# Altium footprint library WREL_AD10.PcbLib: 52 footprints (part 3 of 4)
Each footprint in its own frame and in the unit in brackets; x right, y up, seen from the top. Pads: shape width x height; smd on the part's side, far side on the other; paste and mask are expansions set on the pad; w line width, h text height; cw(c..) or ccw(c..) is an arc to the next point about the centre after c.
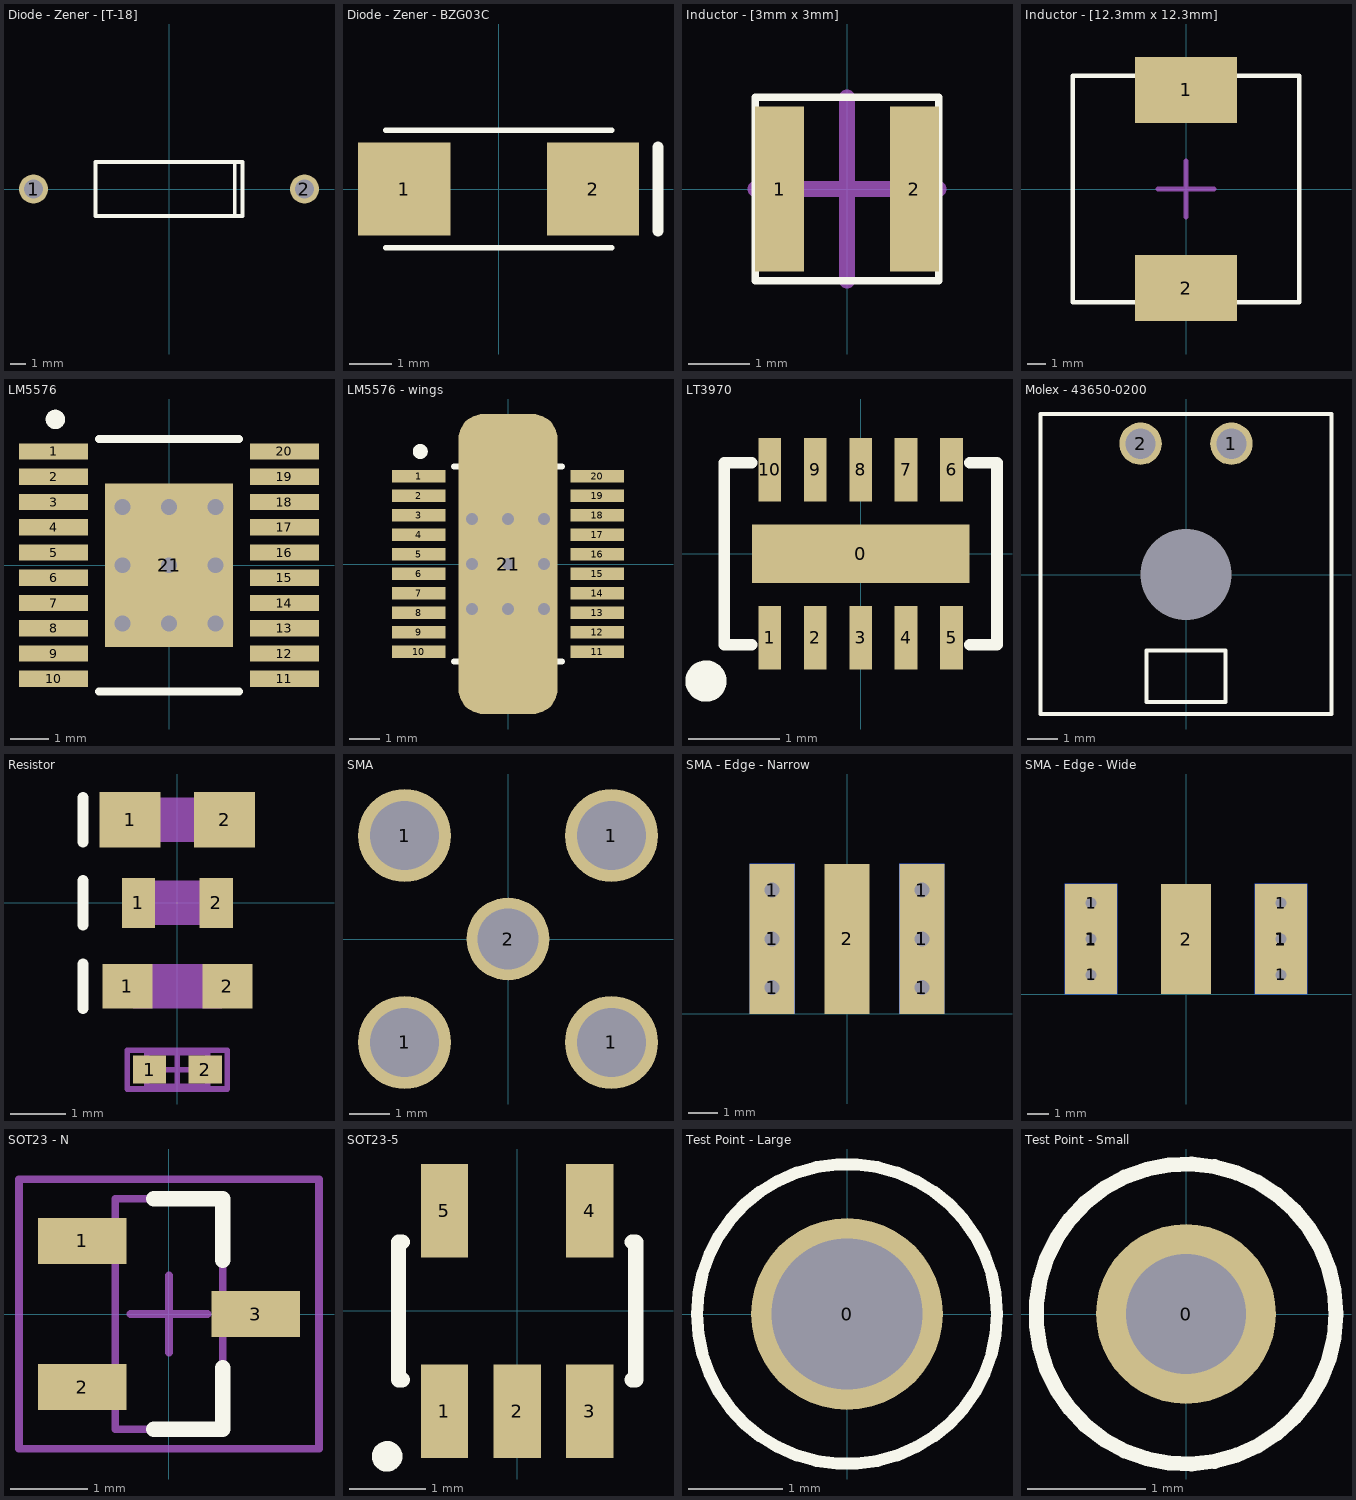
[diagram p2: the footprints below, top view; thin cyan lines are the x and y axes]

## Diode - Zener - [T-18] [mm] "Through Hole,  ON Semiconductor 1N53xxB, CASE 017AA-01"
height 3.68
pads (2):
  round 1.905 hole 1.27: 1(-8.89,0) 2(8.89,0)
Top Overlay:
  lines w0.254: 4.318,-1.778 4.318,1.778 ; -4.826,-1.778 -4.826,1.778 4.826,1.778 4.826,-1.778 -4.826,-1.778

## Diode - Zener - BZG03C [mm] "Zener Diodes, BZG03C-Series, Vishay Semiconductor"
height 2.3
pads (2):
  rect 2.2x2.21 smd: 1(-2.25,0) 2(2.25,0)
Top Overlay:
  lines w0.127: -2.7,-1.4 2.7,-1.4 ; -2.7,1.4 2.7,1.4
  lines w0.254: 3.8,-1 3.8,1
3D body: height 2.3, standoff 0, extent -2.75,-1.4 2.75,1.4

## Inductor - [3mm x 3mm] [mm] "Surface mount power inductor (3mm x 3mm)"
height 1.5
pads (2):
  rect 0.8x2.7 smd: 1(-1.1,0) 2(1.1,0)
Top Overlay:
  lines w0.127: -1.5,-1.5 1.5,-1.5 1.5,1.5 -1.5,1.5 -1.5,-1.5
Mechanical 15:
  lines w0.254: -1.5,0 1.5,0 ; 0,-1.5 0,1.5

## Inductor - [12.3mm x 12.3mm] [mm] "Surface mount power inductor (12.3 x 12.3)"
height 8
pads (2):
  rect 5.4x3.5 smd: 1(0,5.25) 2(0,-5.25)
Top Overlay:
  lines w0.254: -6,-6 6,-6 6,6 -6,6 -6,-6
Mechanical 15:
  lines w0.254: -1.5,0 1.5,0 ; 0,-1.5 0,1.5
3D body: height 10, standoff 0, extent -6,-6 6,6

## LM5576 [mm] "75V 3A Step-Down Switching Regualtor"
height 1.1
pads (21):
  rect 1.78x0.42 smd: 1(-2.97,2.925) 2(-2.97,2.275) 3(-2.97,1.625) 4(-2.97,0.975) 5(-2.97,0.325) 6(-2.97,-0.325) 7(-2.97,-0.975) 8(-2.97,-1.625) 9(-2.97,-2.275) 10(-2.97,-2.925) 11(2.97,-2.925) 12(2.97,-2.275) 13(2.97,-1.625) 14(2.97,-0.975) 15(2.97,-0.325) 16(2.97,0.325) 17(2.97,0.975) 18(2.97,1.625) 19(2.97,2.275) 20(2.97,2.925)
  rect 3.3x4.2 smd: 21(0,0)
via -1.2,1.5 diameter 0.838 hole 0.406
via 0,1.5 diameter 0.838 hole 0.406
via 1.2,1.5 diameter 0.838 hole 0.406
via -1.2,0 diameter 0.838 hole 0.406
via 0,0 diameter 0.838 hole 0.406
via 1.2,0 diameter 0.838 hole 0.406
via -1.2,-1.5 diameter 0.838 hole 0.406
via 0,-1.5 diameter 0.838 hole 0.406
via 1.2,-1.5 diameter 0.838 hole 0.406
Top Overlay:
  circle w0.25: c-2.925,3.75 r0.125
  lines w0.2: -1.8,-3.25 1.8,-3.25 ; -1.8,3.25 1.8,3.25
Mechanical 15:
  lines w0.1: -0.5,0 0.5,0 ; -0.3,0 0.3,0 ; 0,-0.5 0,0.5 ; 0,-0.3 0,0.3
3D body: height 1.1, standoff 0, extent -2.2,-3.25 2.2,3.25

## LM5576 - wings [mm] "75V 3A Step-Down Switching Regualtor"
height 1.1
pads (21):
  rect 1.78x0.42 smd: 1(-2.97,2.925) 2(-2.97,2.275) 3(-2.97,1.625) 4(-2.97,0.975) 5(-2.97,0.325) 6(-2.97,-0.325) 7(-2.97,-0.975) 8(-2.97,-1.625) 9(-2.97,-2.275) 10(-2.97,-2.925) 11(2.97,-2.925) 12(2.97,-2.275) 13(2.97,-1.625) 14(2.97,-0.975) 15(2.97,-0.325) 16(2.97,0.325) 17(2.97,0.975) 18(2.97,1.625) 19(2.97,2.275) 20(2.97,2.925)
  rrect50% 3.3x10 smd: 21(0,0)
via 1.2,-1.5 diameter 0.838 hole 0.406
via 0,-1.5 diameter 0.838 hole 0.406
via -1.2,-1.5 diameter 0.838 hole 0.406
via 1.2,0 diameter 0.838 hole 0.406
via 0,0 diameter 0.838 hole 0.406
via -1.2,0 diameter 0.838 hole 0.406
via 1.2,1.5 diameter 0.838 hole 0.406
via 0,1.5 diameter 0.838 hole 0.406
via -1.2,1.5 diameter 0.838 hole 0.406
Top Overlay:
  circle w0.25: c-2.925,3.75 r0.125
  lines w0.2: -1.8,-3.25 1.8,-3.25 ; -1.8,3.25 1.8,3.25
Mechanical 15:
  lines w0.1: -0.5,0 0.5,0 ; 0,-0.5 0,0.5
3D body: height 1.1, standoff 0, extent -2.2,-3.25 2.2,3.25

## LT3970 [mm] "DFN-10, (3mmx2mm)"
height 0.75
pads (11):
  rect 2.39x0.64 smd: 0(0,0)
  rect 0.25x0.7 smd: 1(-1,-0.925) 2(-0.5,-0.925) 3(0,-0.925) 4(0.5,-0.925) 5(1,-0.925) 6(1,0.925) 7(0.5,0.925) 8(0,0.925) 9(-0.5,0.925) 10(-1,0.925)
Top Overlay:
  circle w0.254: c-1.7,-1.4 r0.1
  lines w0.127: -1.2,-1 -1.5,-1 -1.5,1 -1.2,1 ; 1.2,-1 1.5,-1 1.5,1 1.2,1
3D body: height 0.75, standoff 0, extent -1.5,-1 1.5,1

## Molex - 43650-0200 [mm] "2 Position, Molex, Micro-Fit 3.0,  [43650-0200]"
height 4.37
pads (3):
  round 0 hole 3 unplated: 0(0,0)
  round 1.4 hole 1: 1(1.5,4.32) 2(-1.5,4.32)
Top Overlay:
  lines w0.127: -4.8,-4.6 4.8,-4.6 4.8,5.3 -4.8,5.3 -4.8,-4.6 ; -1.3,-4.2 1.3,-4.2 1.3,-2.5 -1.3,-2.5 -1.3,-4.2
3D body: height 5.68, standoff -3.08, extent -4.826,-4.572 4.824,5.328

## Resistor [mm]
pads (8):
  rect 0.9x0.8 smd: 1(-0.9,-1.5) 2(0.9,-1.5)
  rect 1.1x1 smd: 1(-0.85,1.5) 2(0.85,1.5)
  rect 0.6x0.9 smd: 1(-0.7,0) 2(0.7,0)
  rect 0.6x0.5 smd: 1(-0.5,-3) 2(0.5,-3)
Top Overlay:
  lines w0.2: -1.7,-1.9 -1.7,-1.1 ; -1.7,-0.4 -1.7,0.4 ; -1.7,1.1 -1.7,1.9
Mechanical 13:
  lines w0.1: -0.55,-3.3 0.55,-3.3 0.55,-2.7 -0.55,-2.7 -0.55,-3.3
Mechanical 15:
  rectangle: -0.8,-1.9 0.8,-1.1
  rectangle: -0.8,-0.4 0.8,0.4
  rectangle: -0.8,1.1 0.8,1.9
  lines w0.1: -0.3,-3 0.3,-3 ; 0,-3.3 0,-2.7 ; -0.9,-3.35 0.9,-3.35 0.9,-2.65 -0.9,-2.65 -0.9,-3.35
3D body: height 1.3, standoff 0, extent -0.55,-3.3 0.55,-2.7

## SMA [mil] "SMA Through Hole Connector"
pads (5):
  round 90 hole 67: 1(-100,-100) 1(-100,100) 1(100,-100) 1(100,100)
  round 80 hole 59.06: 2(0,0)

## SMA - Edge - Narrow [mil] "SMA - Board Edge Connector, Narrow body = 0.25in"
height 5
pads (11):
  round 38 hole 20: 1(-100,35) 1(-100,100) 1(-100,165) 1(100,35) 1(100,100) 1(100,165)
  rect 60x200 smd: 1(-100,100) 1(100,100) 2(0,100)
  rect 60x200 smd far side: 1(-100,100) 1(100,100)
3D body: height 150.2, standoff -99.8, extent -125,-377.95 125,146.85

## SMA - Edge - Wide [mil] "SMA - Board Edge Connector, Wide Body = .375in, no gnd pad"
height 5
pads (11):
  round 38 hole 20: 1(-172.5,35) 1(-172.5,100) 1(-172.5,165) 1(172.5,35) 1(172.5,100) 1(172.5,165)
  rect 95x200 smd: 1(-172.5,100) 1(172.5,100)
  rect 95x200 smd far side: 1(-172.5,100) 1(172.5,100)
  rect 90x200 smd: 2(0,100)

## SOT23 - N [mm] "SOT23, 3-Leads, Body 2.9x1.3mm, Pitch 0.95mm, Lead Span 2.3mm - Reverse Pinning, IPC Medium Density"
height 1.1
pads (3):
  rect 1.15x0.6 smd: 1(-1.125,0.95) 2(-1.125,-0.95) 3(1.125,0)
Top Overlay:
  lines w0.2: -0.2,-1.5 0.7,-1.5 0.7,-0.7 ; -0.2,1.5 0.7,1.5 0.7,0.7
Mechanical 13:
  lines w0.1: -0.7,-1.5 0.7,-1.5 0.7,1.5 -0.7,1.5 -0.7,-1.5
Mechanical 15:
  lines w0.1: -0.5,0 0.5,0 ; 0,-0.5 0,0.5 ; -1.95,-1.75 1.95,-1.75 1.95,1.75 -1.95,1.75 -1.95,-1.75
3D body: height 1.1, standoff 0, extent -0.7,-1.5 0.7,1.5

## SOT23-5 [mm] "SOT23-5"
height 1.27
pads (5):
  rect 0.62x1.22 smd: 1(-0.95,-1.31) 2(0,-1.31) 3(0.95,-1.31) 4(0.95,1.31) 5(-0.95,1.31)
Top Overlay:
  circle w0.2: c-1.7,-1.9 r0.1
  lines w0.2: -1.5,-0.9 -1.55,-0.9 -1.55,0.9 -1.5,0.9 ; 1.5,-0.9 1.55,-0.9 1.55,0.9 1.5,0.9
3D body: height 1, standoff 0, extent -1.55,-0.9 1.55,0.9

## Test Point - Large [mil] "Test Point, 63mil hole, example DK: 5012K-ND"
pads (1):
  round 80 hole 63: 0(0,0)
Top Overlay:
  circle w5: c0,0 r62.5

## Test Point - Small [mil] "Test Point, 40mil hole, example DK: 5000K-ND"
pads (1):
  round 60 hole 40: 0(0,0)
Top Overlay:
  circle w5: c0,0 r50